# EAGLE library part MOTOR-A3906 (library mrone)
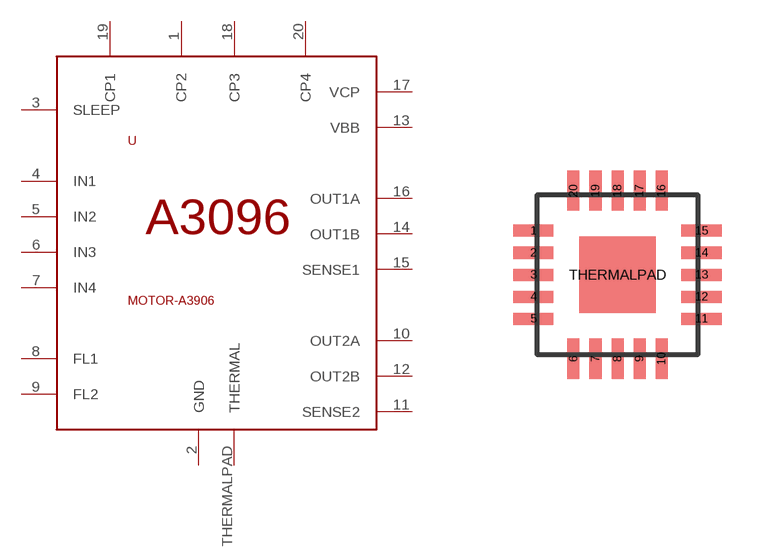
[diagram p1: symbol with the pads of QFN-20; footprint QFN-20]

Designator prefix -

## MOTOR-A3906  [QFN-20]
1  CP2
2  GND
3  SLEEP
4  IN1
5  IN2
6  IN3
7  IN4
8  FL1
9  FL2
10  OUT2A
11  SENSE2
12  OUT2B
13  VBB
14  OUT1B
15  SENSE1
16  OUT1A
17  VCP
18  CP3
19  CP1
20  CP4
THERMALPAD  THERMAL

## Footprint QFN-20 (pad centres in mm)
smd 1 x 0.3: 1 -2.1,1.1; 2 -2.1,0.55; 3 -2.1,0; 4 -2.1,-0.55; 5 -2.1,-1.1; 11 2.1,-1.1; 12 2.1,-0.55; 13 2.1,0; 14 2.1,0.55; 15 2.1,1.1
smd 0.3 x 1: 6 -1.1,-2.1; 7 -0.55,-2.1; 8 0,-2.1; 9 0.55,-2.1; 10 1.1,-2.1; 16 1.1,2.1; 17 0.55,2.1; 18 0,2.1; 19 -0.55,2.1; 20 -1.1,2.1
smd 1.9 x 1.9: THERMALPAD 0,0